# EAGLE library part XFMR_12VA_FLAT (library wheat)
XFMR, 12VA FLAT, DUAL PRI
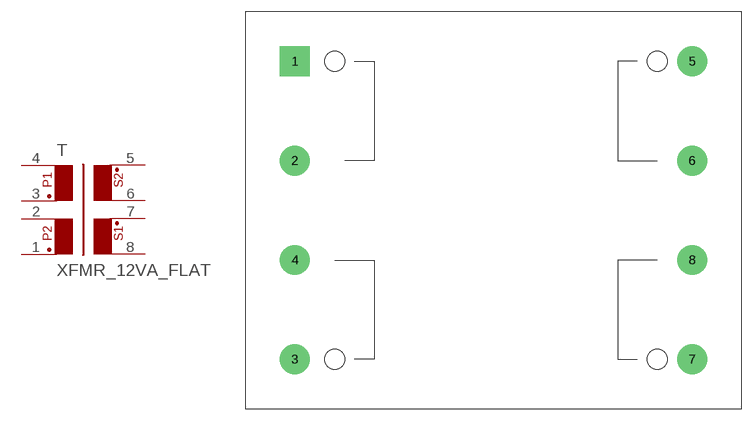
[diagram p37: symbol with the pads of XFMR_FLAT_12VA; footprint XFMR_FLAT_12VA]

Designator prefix T

## XFMR_12VA_FLAT  [XFMR_FLAT_12VA]
1  1  pas
2  2  pas
3  3  pas
4  4  pas
5  5  pas
6  6  pas
7  7  pas
8  8  pas

## Footprint XFMR_FLAT_12VA (pad centres in mm)
XFMR, 12VA FLAT
drill 1.778 pad 3.81 square: 1 -25.4,0
drill 1.778 pad 3.81: 2 -25.4,-12.7; 3 -25.4,-38.1; 4 -25.4,-25.4; 5 25.4,0; 6 25.4,-12.7; 7 25.4,-38.1; 8 25.4,-25.4